# Altium footprint library HLib_connector_fp.PcbLib: 41 footprints (part 3 of 3)
Each footprint in its own frame and in the unit in brackets; x right, y up, seen from the top. Pads: shape width x height; smd on the part's side, far side on the other; paste and mask are expansions set on the pad; w line width, h text height; cw(c..) or ccw(c..) is an arc to the next point about the centre after c.
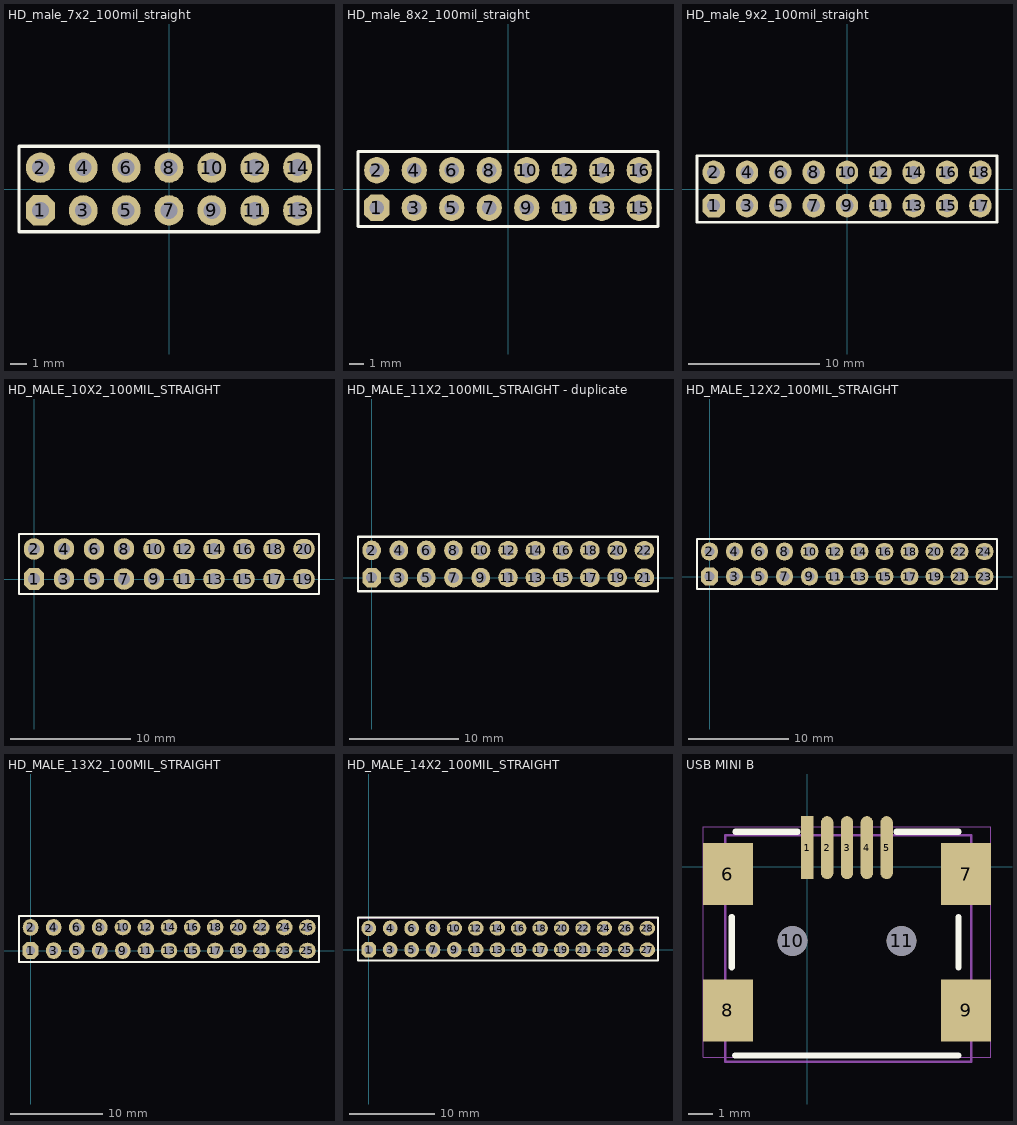
[diagram p2: the footprints below, top view; thin cyan lines are the x and y axes]

## HD_male_7x2_100mil_straight [mm]
pads (14):
  oct 1.7x1.8 hole 1: 1(-7.62,-1.27)
  oval 1.7x1.8 hole 1: 2(-7.62,1.27) 3(-5.08,-1.27) 4(-5.08,1.27) 5(-2.54,-1.27) 6(-2.54,1.27) 7(0,-1.27) 8(0,1.27) 9(2.54,-1.27) 10(2.54,1.27) 11(5.08,-1.27) 12(5.08,1.27) 13(7.62,-1.27) 14(7.62,1.27)
Top Overlay:
  lines w0.2: -8.89,-2.54 8.89,-2.54 8.89,2.54 -8.89,2.54 -8.89,-2.54
Mechanical 15 keep-out:
  lines w0.1: -8.89,-2.54 -8.89,2.54 8.89,2.54 8.89,-2.54 -8.89,-2.54
3D body: height 2, standoff 0, extent 6.35,0 8.89,2.54
3D body: height 2, standoff 0, extent 3.81,0 6.35,2.54
3D body: height 2, standoff 0, extent 1.27,0 3.81,2.54
3D body: height 2, standoff 0, extent -1.27,0 1.27,2.54
3D body: height 2, standoff 0, extent -3.81,0 -1.27,2.54
3D body: height 2, standoff 0, extent -6.35,0 -3.81,2.54
3D body: height 2, standoff 0, extent 3.81,-2.54 6.35,0
3D body: height 2, standoff 0, extent 1.27,-2.54 3.81,0
3D body: height 2, standoff 0, extent -1.27,-2.54 1.27,0
3D body: height 2, standoff 0, extent -3.81,-2.54 -1.27,0
3D body: height 2, standoff 0, extent -6.35,-2.54 -3.81,0
3D body: height 2, standoff 0, extent 6.35,-2.54 8.89,0
3D body: height 2, standoff 0, extent -8.89,-2.54 -6.35,0
3D body: height 2, standoff 0, extent -8.89,0 -6.35,2.54
3D body: height 8, standoff -1, extent 7.366,1.016 7.874,1.524
3D body: height 8, standoff -1, extent 4.826,1.016 5.334,1.524
3D body: height 8, standoff -1, extent 7.366,-1.524 7.874,-1.016
3D body: height 8, standoff -1, extent 4.826,-1.524 5.334,-1.016
3D body: height 8, standoff -1, extent 2.286,1.016 2.794,1.524
3D body: height 8, standoff -1, extent 2.286,-1.524 2.794,-1.016
3D body: height 8, standoff -1, extent -0.254,1.016 0.254,1.524
3D body: height 8, standoff -1, extent -0.254,-1.524 0.254,-1.016
3D body: height 8, standoff -1, extent -2.794,1.016 -2.286,1.524
3D body: height 8, standoff -1, extent -2.794,-1.524 -2.286,-1.016
3D body: height 8, standoff -1, extent -5.334,1.016 -4.826,1.524
3D body: height 8, standoff -1, extent -5.334,-1.524 -4.826,-1.016
3D body: height 8, standoff -1, extent -7.874,-1.524 -7.366,-1.016
3D body: height 8, standoff -1, extent -7.874,1.016 -7.366,1.524

## HD_male_8x2_100mil_straight [mm]
pads (16):
  oct 1.7x1.8 hole 1: 1(-8.89,-1.27)
  oval 1.7x1.8 hole 1: 2(-8.89,1.27) 3(-6.35,-1.27) 4(-6.35,1.27) 5(-3.81,-1.27) 6(-3.81,1.27) 7(-1.27,-1.27) 8(-1.27,1.27) 9(1.27,-1.27) 10(1.27,1.27) 11(3.81,-1.27) 12(3.81,1.27) 13(6.35,-1.27) 14(6.35,1.27) 15(8.89,-1.27) 16(8.89,1.27)
Top Overlay:
  lines w0.2: -10.16,-2.54 10.16,-2.54 10.16,2.54 -10.16,2.54 -10.16,-2.54
Mechanical 15 keep-out:
  lines w0.1: -10.16,-2.54 10.16,-2.54 10.16,2.54 -10.16,2.54 -10.16,-2.54
3D body: height 2, standoff 0, extent -10.16,0 -7.62,2.54
3D body: height 2, standoff 0, extent -10.16,-2.54 -7.62,0
3D body: height 2, standoff 0, extent 7.62,-2.54 10.16,0
3D body: height 2, standoff 0, extent -7.62,-2.54 -5.08,0
3D body: height 2, standoff 0, extent -5.08,-2.54 -2.54,0
3D body: height 2, standoff 0, extent -2.54,-2.54 0,0
3D body: height 2, standoff 0, extent 0,-2.54 2.54,0
3D body: height 2, standoff 0, extent 2.54,-2.54 5.08,0
3D body: height 2, standoff 0, extent 5.08,-2.54 7.62,0
3D body: height 2, standoff 0, extent -7.62,0 -5.08,2.54
3D body: height 2, standoff 0, extent -5.08,0 -2.54,2.54
3D body: height 2, standoff 0, extent -2.54,0 0,2.54
3D body: height 2, standoff 0, extent 0,0 2.54,2.54
3D body: height 2, standoff 0, extent 2.54,0 5.08,2.54
3D body: height 2, standoff 0, extent 5.08,0 7.62,2.54
3D body: height 2, standoff 0, extent 7.62,0 10.16,2.54
3D body: height 8, standoff -1, extent -9.144,1.016 -8.636,1.524
3D body: height 8, standoff -1, extent -9.144,-1.524 -8.636,-1.016
3D body: height 8, standoff -1, extent -6.604,-1.524 -6.096,-1.016
3D body: height 8, standoff -1, extent -6.604,1.016 -6.096,1.524
3D body: height 8, standoff -1, extent -4.064,-1.524 -3.556,-1.016
3D body: height 8, standoff -1, extent -4.064,1.016 -3.556,1.524
3D body: height 8, standoff -1, extent -1.524,-1.524 -1.016,-1.016
3D body: height 8, standoff -1, extent -1.524,1.016 -1.016,1.524
3D body: height 8, standoff -1, extent 1.016,-1.524 1.524,-1.016
3D body: height 8, standoff -1, extent 1.016,1.016 1.524,1.524
3D body: height 8, standoff -1, extent 3.556,-1.524 4.064,-1.016
3D body: height 8, standoff -1, extent 3.556,1.016 4.064,1.524
3D body: height 8, standoff -1, extent 6.096,-1.524 6.604,-1.016
3D body: height 8, standoff -1, extent 6.096,1.016 6.604,1.524
3D body: height 8, standoff -1, extent 8.636,-1.524 9.144,-1.016
3D body: height 8, standoff -1, extent 8.636,1.016 9.144,1.524

## HD_male_9x2_100mil_straight [mm]
pads (18):
  oct 1.7x1.8 hole 1: 1(-10.16,-1.27)
  oval 1.7x1.8 hole 1: 2(-10.16,1.27) 3(-7.62,-1.27) 4(-7.62,1.27) 5(-5.08,-1.27) 6(-5.08,1.27) 7(-2.54,-1.27) 8(-2.54,1.27) 9(0,-1.27) 10(0,1.27) 11(2.54,-1.27) 12(2.54,1.27) 13(5.08,-1.27) 14(5.08,1.27) 15(7.62,-1.27) 16(7.62,1.27) 17(10.16,-1.27) 18(10.16,1.27)
Top Overlay:
  lines w0.2: -11.43,-2.54 11.43,-2.54 11.43,2.54 -11.43,2.54 -11.43,-2.54
Mechanical 15 keep-out:
  lines w0.1: -11.43,-2.54 11.43,-2.54 11.43,2.54 -11.43,2.54 -11.43,-2.54
3D body: height 2, standoff 0, extent -11.43,0 -8.89,2.54
3D body: height 2, standoff 0, extent -11.43,-2.54 -8.89,0
3D body: height 2, standoff 0, extent 8.89,-2.54 11.43,0
3D body: height 2, standoff 0, extent -8.89,-2.54 -6.35,0
3D body: height 2, standoff 0, extent -6.35,-2.54 -3.81,0
3D body: height 2, standoff 0, extent -3.81,-2.54 -1.27,0
3D body: height 2, standoff 0, extent -1.27,-2.54 1.27,0
3D body: height 2, standoff 0, extent 1.27,-2.54 3.81,0
3D body: height 2, standoff 0, extent 3.81,-2.54 6.35,0
3D body: height 2, standoff 0, extent 6.35,-2.54 8.89,0
3D body: height 2, standoff 0, extent -8.89,0 -6.35,2.54
3D body: height 2, standoff 0, extent -6.35,0 -3.81,2.54
3D body: height 2, standoff 0, extent -3.81,0 -1.27,2.54
3D body: height 2, standoff 0, extent -1.27,0 1.27,2.54
3D body: height 2, standoff 0, extent 1.27,0 3.81,2.54
3D body: height 2, standoff 0, extent 3.81,0 6.35,2.54
3D body: height 2, standoff 0, extent 6.35,0 8.89,2.54
3D body: height 2, standoff 0, extent 8.89,0 11.43,2.54
3D body: height 8, standoff -1, extent -10.414,-1.524 -9.906,-1.016
3D body: height 8, standoff -1, extent -10.414,1.016 -9.906,1.524
3D body: height 8, standoff -1, extent -7.874,-1.524 -7.366,-1.016
3D body: height 8, standoff -1, extent -7.874,1.016 -7.366,1.524
3D body: height 8, standoff -1, extent -5.334,-1.524 -4.826,-1.016
3D body: height 8, standoff -1, extent -5.334,1.016 -4.826,1.524
3D body: height 8, standoff -1, extent -2.794,-1.524 -2.286,-1.016
3D body: height 8, standoff -1, extent -2.794,1.016 -2.286,1.524
3D body: height 8, standoff -1, extent -0.254,-1.524 0.254,-1.016
3D body: height 8, standoff -1, extent -0.254,1.016 0.254,1.524
3D body: height 8, standoff -1, extent 2.286,-1.524 2.794,-1.016
3D body: height 8, standoff -1, extent 2.286,1.016 2.794,1.524
3D body: height 8, standoff -1, extent 4.826,-1.524 5.334,-1.016
3D body: height 8, standoff -1, extent 4.826,1.016 5.334,1.524
3D body: height 8, standoff -1, extent 7.366,-1.524 7.874,-1.016
3D body: height 8, standoff -1, extent 7.366,1.016 7.874,1.524
3D body: height 8, standoff -1, extent 9.906,-1.524 10.414,-1.016
3D body: height 8, standoff -1, extent 9.906,1.016 10.414,1.524

## HD_MALE_10X2_100MIL_STRAIGHT [mm]
pads (20):
  oct 1.7x1.8 hole 1: 1(0,0)
  oval 1.7x1.8 hole 1: 2(0,2.5) 3(2.5,0) 4(2.5,2.5) 5(5,0) 6(5,2.5) 7(7.5,0) 8(7.5,2.5) 9(10,0)
  oval 1.8x1.7 hole 1: 10(10,2.5) 11(12.5,0) 12(12.5,2.5) 13(15,0) 14(15,2.5) 15(17.5,0) 16(17.5,2.5) 17(20,0) 18(20,2.5) 19(22.5,0) 20(22.5,2.5)
Top Overlay:
  lines w0.2: -1.25,-1.25 -1.25,3.75 23.75,3.75 23.75,-1.25 -1.25,-1.25
Mechanical 15:
  lines w0.1: -1.25,-1.25 -1.25,3.75 23.75,3.75 23.75,-1.25 -1.25,-1.25
3D body: height 2, standoff 0, extent -1.25,-1.25 1.25,1.25
3D body: height 2, standoff 0, extent -1.25,1.25 1.25,3.75
3D body: height 2, standoff 0, extent 1.25,-1.25 3.75,1.25
3D body: height 2, standoff 0, extent 3.75,-1.25 6.25,1.25
3D body: height 2, standoff 0, extent 6.25,-1.25 8.75,1.25
3D body: height 2, standoff 0, extent 21.25,1.25 23.75,3.75
3D body: height 2, standoff 0, extent 6.25,1.25 8.75,3.75
3D body: height 2, standoff 0, extent 3.75,1.25 6.25,3.75
3D body: height 2, standoff 0, extent 1.25,1.25 3.75,3.75
3D body: height 8, standoff -1, extent -0.25,2.5 0.25,3
3D body: height 8, standoff -1, extent -0.25,-0.25 0.25,0.25
3D body: height 8, standoff -1, extent 2.25,-0.25 2.75,0.25
3D body: height 8, standoff -1, extent 2.25,2.25 2.75,2.75
3D body: height 8, standoff -1, extent 4.75,2.25 5.25,2.75
3D body: height 8, standoff -1, extent 4.75,-0.25 5.25,0.25
3D body: height 8, standoff -1, extent 7.25,-0.25 7.75,0.25
3D body: height 8, standoff -1, extent 7.25,2.25 7.75,2.75
3D body: height 8, standoff -1, extent 9.5,-0.25 10,0.25
3D body: height 8, standoff -1, extent 9.75,2.25 10.25,2.75
3D body: height 2, standoff 0, extent 18.75,-1.25 21.25,1.25
3D body: height 2, standoff 0, extent 16.25,-1.25 18.75,1.25
3D body: height 2, standoff 0, extent 13.75,-1.25 16.25,1.25
3D body: height 2, standoff 0, extent 11.25,-1.25 13.75,1.25
3D body: height 2, standoff 0, extent 8.75,-1.25 11.25,1.25
3D body: height 2, standoff 0, extent 18.75,1.25 21.25,3.75
3D body: height 2, standoff 0, extent 16.25,1.25 18.75,3.75
3D body: height 2, standoff 0, extent 13.75,1.25 16.25,3.75
3D body: height 2, standoff 0, extent 11.25,1.25 13.75,3.75
3D body: height 2, standoff 0, extent 8.75,1.25 11.25,3.75
3D body: height 8, standoff -1, extent 9.75,2.25 10.25,2.75
3D body: height 8, standoff -1, extent 12.25,-0.25 12.75,0.25
3D body: height 8, standoff -1, extent 12.25,2.25 12.75,2.75
3D body: height 8, standoff -1, extent 14.75,-0.25 15.25,0.25
3D body: height 8, standoff -1, extent 14.75,2.25 15.25,2.75
3D body: height 8, standoff -1, extent 17.25,-0.25 17.75,0.25
3D body: height 8, standoff -1, extent 17.25,2.25 17.75,2.75
3D body: height 8, standoff -1, extent 19.75,-0.25 20.25,0.25
3D body: height 8, standoff -1, extent 19.75,2.25 20.25,2.75
3D body: height 8, standoff -1, extent 22.25,-0.25 22.75,0.25
3D body: height 8, standoff -1, extent 22.25,2.25 22.75,2.75
3D body: height 2, standoff 0, extent 21.25,-1.25 23.75,1.25

## HD_MALE_11X2_100MIL_STRAIGHT - duplicate [mm]
pads (22):
  oct 1.7x1.8 hole 1: 1(0,0)
  oval 1.7x1.8 hole 1: 2(0,2.5) 3(2.5,0) 4(2.5,2.5) 5(5,0) 6(5,2.5) 7(7.5,0) 8(7.5,2.5) 9(10,0)
  oval 1.8x1.7 hole 1: 10(10,2.5) 11(12.5,0) 12(12.5,2.5) 13(15,0) 14(15,2.5) 15(17.5,0) 16(17.5,2.5) 17(20,0) 18(20,2.5) 19(22.5,0) 20(22.5,2.5) 21(25,0) 22(25,2.5)
Top Overlay:
  lines w0.2: -1.25,-1.25 -1.25,3.75 26.25,3.75 26.25,-1.25 -1.25,-1.25
Mechanical 15:
  lines w0.1: -1.25,-1.25 -1.25,3.75 26.25,3.75 26.25,-1.25 -1.25,-1.25
3D body: height 2, standoff 0, extent -1.25,-1.25 1.25,1.25
3D body: height 2, standoff 0, extent -1.25,1.25 1.25,3.75
3D body: height 2, standoff 0, extent 1.25,-1.25 3.75,1.25
3D body: height 2, standoff 0, extent 3.75,-1.25 6.25,1.25
3D body: height 2, standoff 0, extent 6.25,-1.25 8.75,1.25
3D body: height 2, standoff 0, extent 23.75,1.25 26.25,3.75
3D body: height 2, standoff 0, extent 6.25,1.25 8.75,3.75
3D body: height 2, standoff 0, extent 3.75,1.25 6.25,3.75
3D body: height 2, standoff 0, extent 1.25,1.25 3.75,3.75
3D body: height 8, standoff -1, extent -0.25,2.5 0.25,3
3D body: height 8, standoff -1, extent -0.25,-0.25 0.25,0.25
3D body: height 8, standoff -1, extent 2.25,-0.25 2.75,0.25
3D body: height 8, standoff -1, extent 2.25,2.25 2.75,2.75
3D body: height 8, standoff -1, extent 4.75,2.25 5.25,2.75
3D body: height 8, standoff -1, extent 4.75,-0.25 5.25,0.25
3D body: height 8, standoff -1, extent 7.25,-0.25 7.75,0.25
3D body: height 8, standoff -1, extent 7.25,2.25 7.75,2.75
3D body: height 8, standoff -1, extent 9.5,-0.25 10,0.25
3D body: height 8, standoff -1, extent 9.75,2.25 10.25,2.75
3D body: height 2, standoff 0, extent 21.25,-1.25 23.75,1.25
3D body: height 2, standoff 0, extent 18.75,-1.25 21.25,1.25
3D body: height 2, standoff 0, extent 16.25,-1.25 18.75,1.25
3D body: height 2, standoff 0, extent 13.75,-1.25 16.25,1.25
3D body: height 2, standoff 0, extent 11.25,-1.25 13.75,1.25
3D body: height 2, standoff 0, extent 8.75,-1.25 11.25,1.25
3D body: height 2, standoff 0, extent 21.25,1.25 23.75,3.75
3D body: height 2, standoff 0, extent 18.75,1.25 21.25,3.75
3D body: height 2, standoff 0, extent 16.25,1.25 18.75,3.75
3D body: height 2, standoff 0, extent 13.75,1.25 16.25,3.75
3D body: height 2, standoff 0, extent 11.25,1.25 13.75,3.75
3D body: height 2, standoff 0, extent 8.75,1.25 11.25,3.75
3D body: height 8, standoff -1, extent 9.75,2.25 10.25,2.75
3D body: height 8, standoff -1, extent 12.25,-0.25 12.75,0.25
3D body: height 8, standoff -1, extent 12.25,2.25 12.75,2.75
3D body: height 8, standoff -1, extent 14.75,-0.25 15.25,0.25
3D body: height 8, standoff -1, extent 14.75,2.25 15.25,2.75
3D body: height 8, standoff -1, extent 17.25,-0.25 17.75,0.25
3D body: height 8, standoff -1, extent 17.25,2.25 17.75,2.75
3D body: height 8, standoff -1, extent 19.75,-0.25 20.25,0.25
3D body: height 8, standoff -1, extent 19.75,2.25 20.25,2.75
3D body: height 8, standoff -1, extent 22.25,-0.25 22.75,0.25
3D body: height 8, standoff -1, extent 22.25,2.25 22.75,2.75
3D body: height 8, standoff -1, extent 24.75,-0.25 25.25,0.25
3D body: height 8, standoff -1, extent 24.75,2.25 25.25,2.75
3D body: height 2, standoff 0, extent 23.75,-1.25 26.25,1.25

## HD_MALE_12X2_100MIL_STRAIGHT [mm]
pads (24):
  oct 1.7x1.8 hole 1: 1(0,0)
  oval 1.7x1.8 hole 1: 2(0,2.5) 3(2.5,0) 4(2.5,2.5) 5(5,0) 6(5,2.5) 7(7.5,0) 8(7.5,2.5) 9(10,0)
  oval 1.8x1.7 hole 1: 10(10,2.5) 11(12.5,0) 12(12.5,2.5) 13(15,0) 14(15,2.5) 15(17.5,0) 16(17.5,2.5) 17(20,0) 18(20,2.5) 19(22.5,0) 20(22.5,2.5) 21(25,0) 22(25,2.5) 23(27.5,0) 24(27.5,2.5)
Top Overlay:
  lines w0.2: -1.25,-1.25 -1.25,3.75 28.75,3.75 28.75,-1.25 -1.25,-1.25
Mechanical 15:
  lines w0.1: -1.25,-1.25 -1.25,3.75 28.75,3.75 28.75,-1.25 -1.25,-1.25
3D body: height 2, standoff 0, extent -1.25,-1.25 1.25,1.25
3D body: height 2, standoff 0, extent -1.25,1.25 1.25,3.75
3D body: height 2, standoff 0, extent 1.25,-1.25 3.75,1.25
3D body: height 2, standoff 0, extent 3.75,-1.25 6.25,1.25
3D body: height 2, standoff 0, extent 6.25,-1.25 8.75,1.25
3D body: height 2, standoff 0, extent 26.25,-1.25 28.75,1.25
3D body: height 2, standoff 0, extent 26.25,1.25 28.75,3.75
3D body: height 2, standoff 0, extent 6.25,1.25 8.75,3.75
3D body: height 2, standoff 0, extent 3.75,1.25 6.25,3.75
3D body: height 2, standoff 0, extent 1.25,1.25 3.75,3.75
3D body: height 8, standoff -1, extent -0.25,2.5 0.25,3
3D body: height 8, standoff -1, extent -0.25,-0.25 0.25,0.25
3D body: height 8, standoff -1, extent 2.25,-0.25 2.75,0.25
3D body: height 8, standoff -1, extent 2.25,2.25 2.75,2.75
3D body: height 8, standoff -1, extent 4.75,2.25 5.25,2.75
3D body: height 8, standoff -1, extent 4.75,-0.25 5.25,0.25
3D body: height 8, standoff -1, extent 7.25,-0.25 7.75,0.25
3D body: height 8, standoff -1, extent 7.25,2.25 7.75,2.75
3D body: height 8, standoff -1, extent 9.5,-0.25 10,0.25
3D body: height 8, standoff -1, extent 9.75,2.25 10.25,2.75
3D body: height 2, standoff 0, extent 23.75,-1.25 26.25,1.25
3D body: height 2, standoff 0, extent 21.25,-1.25 23.75,1.25
3D body: height 2, standoff 0, extent 18.75,-1.25 21.25,1.25
3D body: height 2, standoff 0, extent 16.25,-1.25 18.75,1.25
3D body: height 2, standoff 0, extent 13.75,-1.25 16.25,1.25
3D body: height 2, standoff 0, extent 11.25,-1.25 13.75,1.25
3D body: height 2, standoff 0, extent 8.75,-1.25 11.25,1.25
3D body: height 2, standoff 0, extent 23.75,1.25 26.25,3.75
3D body: height 2, standoff 0, extent 21.25,1.25 23.75,3.75
3D body: height 2, standoff 0, extent 18.75,1.25 21.25,3.75
3D body: height 2, standoff 0, extent 16.25,1.25 18.75,3.75
3D body: height 2, standoff 0, extent 13.75,1.25 16.25,3.75
3D body: height 2, standoff 0, extent 11.25,1.25 13.75,3.75
3D body: height 2, standoff 0, extent 8.75,1.25 11.25,3.75
3D body: height 8, standoff -1, extent 9.75,2.25 10.25,2.75
3D body: height 8, standoff -1, extent 12.25,-0.25 12.75,0.25
3D body: height 8, standoff -1, extent 12.25,2.25 12.75,2.75
3D body: height 8, standoff -1, extent 14.75,-0.25 15.25,0.25
3D body: height 8, standoff -1, extent 14.75,2.25 15.25,2.75
3D body: height 8, standoff -1, extent 17.25,-0.25 17.75,0.25
3D body: height 8, standoff -1, extent 17.25,2.25 17.75,2.75
3D body: height 8, standoff -1, extent 19.75,-0.25 20.25,0.25
3D body: height 8, standoff -1, extent 19.75,2.25 20.25,2.75
3D body: height 8, standoff -1, extent 22.25,-0.25 22.75,0.25
3D body: height 8, standoff -1, extent 22.25,2.25 22.75,2.75
3D body: height 8, standoff -1, extent 24.75,-0.25 25.25,0.25
3D body: height 8, standoff -1, extent 24.75,2.25 25.25,2.75
3D body: height 8, standoff -1, extent 27.25,-0.25 27.75,0.25
3D body: height 8, standoff -1, extent 27.25,2.25 27.75,2.75

## HD_MALE_13X2_100MIL_STRAIGHT [mm]
pads (26):
  oct 1.7x1.8 hole 1: 1(0,0)
  oval 1.7x1.8 hole 1: 2(0,2.5) 3(2.5,0) 4(2.5,2.5) 5(5,0) 6(5,2.5) 7(7.5,0) 8(7.5,2.5) 9(10,0)
  oval 1.8x1.7 hole 1: 10(10,2.5) 11(12.5,0) 12(12.5,2.5) 13(15,0) 14(15,2.5) 15(17.5,0) 16(17.5,2.5) 17(20,0) 18(20,2.5) 19(22.5,0) 20(22.5,2.5) 21(25,0) 22(25,2.5) 23(27.5,0) 24(27.5,2.5) 25(30,0) 26(30,2.5)
Top Overlay:
  lines w0.2: -1.25,-1.25 -1.25,3.75 31.25,3.75 31.25,-1.25 -1.25,-1.25
Mechanical 15:
  lines w0.1: -1.25,-1.25 -1.25,3.75 31.25,3.75 31.25,-1.25 -1.25,-1.25
3D body: height 2, standoff 0, extent -1.25,-1.25 1.25,1.25
3D body: height 2, standoff 0, extent -1.25,1.25 1.25,3.75
3D body: height 2, standoff 0, extent 1.25,-1.25 3.75,1.25
3D body: height 2, standoff 0, extent 3.75,-1.25 6.25,1.25
3D body: height 2, standoff 0, extent 6.25,-1.25 8.75,1.25
3D body: height 2, standoff 0, extent 28.75,-1.25 31.25,1.25
3D body: height 2, standoff 0, extent 28.75,1.25 31.25,3.75
3D body: height 2, standoff 0, extent 6.25,1.25 8.75,3.75
3D body: height 2, standoff 0, extent 3.75,1.25 6.25,3.75
3D body: height 2, standoff 0, extent 1.25,1.25 3.75,3.75
3D body: height 8, standoff -1, extent -0.25,2.5 0.25,3
3D body: height 8, standoff -1, extent -0.25,-0.25 0.25,0.25
3D body: height 8, standoff -1, extent 2.25,-0.25 2.75,0.25
3D body: height 8, standoff -1, extent 2.25,2.25 2.75,2.75
3D body: height 8, standoff -1, extent 4.75,2.25 5.25,2.75
3D body: height 8, standoff -1, extent 4.75,-0.25 5.25,0.25
3D body: height 8, standoff -1, extent 7.25,-0.25 7.75,0.25
3D body: height 8, standoff -1, extent 7.25,2.25 7.75,2.75
3D body: height 8, standoff -1, extent 9.5,-0.25 10,0.25
3D body: height 8, standoff -1, extent 9.75,2.25 10.25,2.75
3D body: height 2, standoff 0, extent 26.25,-1.25 28.75,1.25
3D body: height 2, standoff 0, extent 23.75,-1.25 26.25,1.25
3D body: height 2, standoff 0, extent 21.25,-1.25 23.75,1.25
3D body: height 2, standoff 0, extent 18.75,-1.25 21.25,1.25
3D body: height 2, standoff 0, extent 16.25,-1.25 18.75,1.25
3D body: height 2, standoff 0, extent 13.75,-1.25 16.25,1.25
3D body: height 2, standoff 0, extent 11.25,-1.25 13.75,1.25
3D body: height 2, standoff 0, extent 8.75,-1.25 11.25,1.25
3D body: height 2, standoff 0, extent 26.25,1.25 28.75,3.75
3D body: height 2, standoff 0, extent 23.75,1.25 26.25,3.75
3D body: height 2, standoff 0, extent 21.25,1.25 23.75,3.75
3D body: height 2, standoff 0, extent 18.75,1.25 21.25,3.75
3D body: height 2, standoff 0, extent 16.25,1.25 18.75,3.75
3D body: height 2, standoff 0, extent 13.75,1.25 16.25,3.75
3D body: height 2, standoff 0, extent 11.25,1.25 13.75,3.75
3D body: height 2, standoff 0, extent 8.75,1.25 11.25,3.75
3D body: height 8, standoff -1, extent 9.75,2.25 10.25,2.75
3D body: height 8, standoff -1, extent 12.25,-0.25 12.75,0.25
3D body: height 8, standoff -1, extent 12.25,2.25 12.75,2.75
3D body: height 8, standoff -1, extent 14.75,-0.25 15.25,0.25
3D body: height 8, standoff -1, extent 14.75,2.25 15.25,2.75
3D body: height 8, standoff -1, extent 17.25,-0.25 17.75,0.25
3D body: height 8, standoff -1, extent 17.25,2.25 17.75,2.75
3D body: height 8, standoff -1, extent 19.75,-0.25 20.25,0.25
3D body: height 8, standoff -1, extent 19.75,2.25 20.25,2.75
3D body: height 8, standoff -1, extent 22.25,-0.25 22.75,0.25
3D body: height 8, standoff -1, extent 22.25,2.25 22.75,2.75
3D body: height 8, standoff -1, extent 24.75,-0.25 25.25,0.25
3D body: height 8, standoff -1, extent 24.75,2.25 25.25,2.75
3D body: height 8, standoff -1, extent 27.25,-0.25 27.75,0.25
3D body: height 8, standoff -1, extent 27.25,2.25 27.75,2.75
3D body: height 8, standoff -1, extent 29.75,-0.25 30.25,0.25
3D body: height 8, standoff -1, extent 29.75,2.25 30.25,2.75

## HD_MALE_14X2_100MIL_STRAIGHT [mm]
pads (28):
  oct 1.7x1.8 hole 1: 1(0,0)
  oval 1.7x1.8 hole 1: 2(0,2.5) 3(2.5,0) 4(2.5,2.5) 5(5,0) 6(5,2.5) 7(7.5,0) 8(7.5,2.5) 9(10,0)
  oval 1.8x1.7 hole 1: 10(10,2.5) 11(12.5,0) 12(12.5,2.5) 13(15,0) 14(15,2.5) 15(17.5,0) 16(17.5,2.5) 17(20,0) 18(20,2.5) 19(22.5,0) 20(22.5,2.5) 21(25,0) 22(25,2.5) 23(27.5,0) 24(27.5,2.5) 25(30,0) 26(30,2.5) 27(32.5,0) 28(32.5,2.5)
Top Overlay:
  lines w0.2: -1.25,-1.25 -1.25,3.75 33.75,3.75 33.75,-1.25 -1.25,-1.25
Mechanical 15:
  lines w0.1: -1.25,-1.25 -1.25,3.75 33.75,3.75 33.75,-1.25 -1.25,-1.25
3D body: height 2, standoff 0, extent -1.25,-1.25 1.25,1.25
3D body: height 2, standoff 0, extent -1.25,1.25 1.25,3.75
3D body: height 2, standoff 0, extent 1.25,-1.25 3.75,1.25
3D body: height 2, standoff 0, extent 3.75,-1.25 6.25,1.25
3D body: height 2, standoff 0, extent 6.25,-1.25 8.75,1.25
3D body: height 2, standoff 0, extent 31.25,-1.25 33.75,1.25
3D body: height 2, standoff 0, extent 31.25,1.25 33.75,3.75
3D body: height 2, standoff 0, extent 6.25,1.25 8.75,3.75
3D body: height 2, standoff 0, extent 3.75,1.25 6.25,3.75
3D body: height 2, standoff 0, extent 1.25,1.25 3.75,3.75
3D body: height 8, standoff -1, extent -0.25,2.5 0.25,3
3D body: height 8, standoff -1, extent -0.25,-0.25 0.25,0.25
3D body: height 8, standoff -1, extent 2.25,-0.25 2.75,0.25
3D body: height 8, standoff -1, extent 2.25,2.25 2.75,2.75
3D body: height 8, standoff -1, extent 4.75,2.25 5.25,2.75
3D body: height 8, standoff -1, extent 4.75,-0.25 5.25,0.25
3D body: height 8, standoff -1, extent 7.25,-0.25 7.75,0.25
3D body: height 8, standoff -1, extent 7.25,2.25 7.75,2.75
3D body: height 8, standoff -1, extent 9.5,-0.25 10,0.25
3D body: height 8, standoff -1, extent 9.75,2.25 10.25,2.75
3D body: height 2, standoff 0, extent 28.75,-1.25 31.25,1.25
3D body: height 2, standoff 0, extent 26.25,-1.25 28.75,1.25
3D body: height 2, standoff 0, extent 23.75,-1.25 26.25,1.25
3D body: height 2, standoff 0, extent 21.25,-1.25 23.75,1.25
3D body: height 2, standoff 0, extent 18.75,-1.25 21.25,1.25
3D body: height 2, standoff 0, extent 16.25,-1.25 18.75,1.25
3D body: height 2, standoff 0, extent 13.75,-1.25 16.25,1.25
3D body: height 2, standoff 0, extent 11.25,-1.25 13.75,1.25
3D body: height 2, standoff 0, extent 8.75,-1.25 11.25,1.25
3D body: height 2, standoff 0, extent 28.75,1.25 31.25,3.75
3D body: height 2, standoff 0, extent 26.25,1.25 28.75,3.75
3D body: height 2, standoff 0, extent 23.75,1.25 26.25,3.75
3D body: height 2, standoff 0, extent 21.25,1.25 23.75,3.75
3D body: height 2, standoff 0, extent 18.75,1.25 21.25,3.75
3D body: height 2, standoff 0, extent 16.25,1.25 18.75,3.75
3D body: height 2, standoff 0, extent 13.75,1.25 16.25,3.75
3D body: height 2, standoff 0, extent 11.25,1.25 13.75,3.75
3D body: height 2, standoff 0, extent 8.75,1.25 11.25,3.75
3D body: height 8, standoff -1, extent 9.75,2.25 10.25,2.75
3D body: height 8, standoff -1, extent 12.25,-0.25 12.75,0.25
3D body: height 8, standoff -1, extent 12.25,2.25 12.75,2.75
3D body: height 8, standoff -1, extent 14.75,-0.25 15.25,0.25
3D body: height 8, standoff -1, extent 14.75,2.25 15.25,2.75
3D body: height 8, standoff -1, extent 17.25,-0.25 17.75,0.25
3D body: height 8, standoff -1, extent 17.25,2.25 17.75,2.75
3D body: height 8, standoff -1, extent 19.75,-0.25 20.25,0.25
3D body: height 8, standoff -1, extent 19.75,2.25 20.25,2.75
3D body: height 8, standoff -1, extent 22.25,-0.25 22.75,0.25
3D body: height 8, standoff -1, extent 22.25,2.25 22.75,2.75
3D body: height 8, standoff -1, extent 24.75,-0.25 25.25,0.25
3D body: height 8, standoff -1, extent 24.75,2.25 25.25,2.75
3D body: height 8, standoff -1, extent 27.25,-0.25 27.75,0.25
3D body: height 8, standoff -1, extent 27.25,2.25 27.75,2.75
3D body: height 8, standoff -1, extent 29.75,-0.25 30.25,0.25
3D body: height 8, standoff -1, extent 29.75,2.25 30.25,2.75
3D body: height 8, standoff -1, extent 32.25,-0.25 32.75,0.25
3D body: height 8, standoff -1, extent 32.25,2.25 32.75,2.75

## USB MINI B [mil] "USB Mini - Type B"
pads (11):
  rect 19.67x100 smd: 1(0,30)
  oval 19.67x100 smd: 2(31.48,30) 3(63,30) 4(94.48,30) 5(126,30)
  rect 78.73x98.43 smd: 6(-125.98,-11.8) 7(251.97,-11.8) 8(-125.98,-228.33) 9(251.97,-228.33)
  round 47 hole 47: 10(-23.62,-118.1) 11(149.6,-118.1)
Top Overlay:
  lines w10: -120,-160 -120,-80 ; -114.32,-300 240,-300 ; -114.17,55.12 -15.73,55.12 ; 141.72,55.12 240.15,55.12 ; 240,-160 240,-80
Mechanical 1:
  lines w1: -165.35,-303.13 -165.35,63 291.33,63 291.33,-303.13 -165.35,-303.13
Mechanical 15:
  lines w3.94: -130,-310 -130,50 260,50 260,-310 -130,-310
3D body: height 155.51, standoff -39.37, extent -150.63,-342.28 270.63,19.92